# EAGLE library part CON_HEADER_2X05 (library bb_pinheader)
2x05 pin header
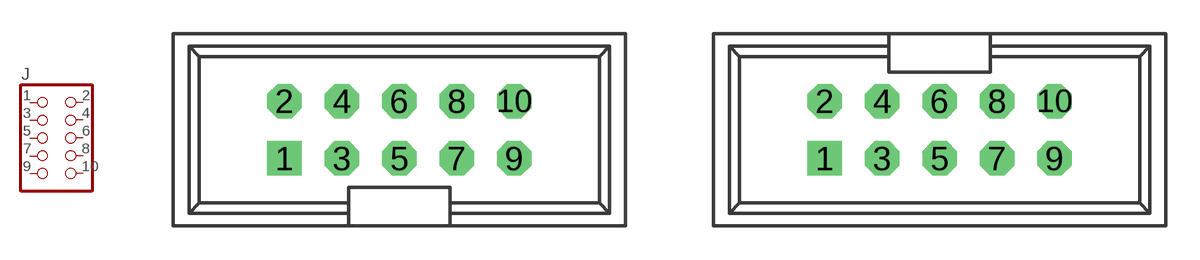
[diagram p4: symbol with the pads of PINSHRD_PTH_2X05; footprints PINSHRD_PTH_2X05, PINSHRD_PTH_2X05B]

Designator prefix J

## CON_HEADER_2X05-PTH+SHROUDED_A  [PINSHRD_PTH_2X05]
1  1  pas
2  2  pas
3  3  pas
4  4  pas
5  5  pas
6  6  pas
7  7  pas
8  8  pas
9  9  pas
10  10  pas

## CON_HEADER_2X05-PTH+SHROUDED_B  [PINSHRD_PTH_2X05B]
Pads as for PINSHRD_PTH_2X05

## CON_HEADER_2X05-SMD+SHROUDED  [PINSHRD_SMT_2X05]
Pads as for PINSHRD_PTH_2X05

## CON_HEADER_2X05-PTH  [M2X5]
Pads as for PINSHRD_PTH_2X05

## Footprint PINSHRD_PTH_2X05 (pad centres in mm)
drill 1.016 square: 1 -5.08,-1.27
drill 1.016 octagon: 2 -5.08,1.27; 3 -2.54,-1.27; 4 -2.54,1.27; 5 0,-1.27; 6 0,1.27; 7 2.54,-1.27; 8 2.54,1.27; 9 5.08,-1.27; 10 5.08,1.27

## Footprint PINSHRD_PTH_2X05B (pad centres in mm)
2X5 Pin header with flipped shrouded case
drill 1.016 square: 1 -5.08,-1.27
drill 1.016 octagon: 2 -5.08,1.27; 3 -2.54,-1.27; 4 -2.54,1.27; 5 0,-1.27; 6 0,1.27; 7 2.54,-1.27; 8 2.54,1.27; 9 5.08,-1.27; 10 5.08,1.27

## Footprint PINSHRD_SMT_2X05 (pad centres in mm)
pitch = 0.100 [2.54], 2x5 source: http://www.mlelectronic.com/shrouded-headers/shrouded-headers-100.asp
smd 1.02 x 3.75: 1 -5.08,-3.107; 2 -5.08,3.107; 3 -2.54,-3.107; 4 -2.54,3.107; 5 0,-3.107; 6 0,3.107; 7 2.54,-3.107; 8 2.54,3.107; 9 5.08,-3.107; 10 5.08,3.107

## Footprint M2X5 (pad centres in mm)
drill 0.8 square: 1 -5.08,-1.27
drill 0.8: 2 -5.08,1.27; 3 -2.54,-1.27; 4 -2.54,1.27; 5 0,-1.27; 6 0,1.27; 7 2.54,-1.27; 8 2.54,1.27; 9 5.08,-1.27; 10 5.08,1.27